# Altium schematic symbol library Schlib1.SchLib: 1 symbol
Pins are listed as number, name and electrical type; pins without a type are passive.

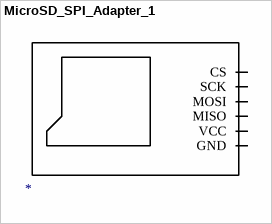
[diagram p0: symbol MicroSD_SPI_Adapter_1]

## MicroSD_SPI_Adapter_1
designator MicroSD SPI Adapter
footprint MicroSD SPI Adapter
pins: CS, GND, MISO, MOSI, SCK, VCC